# EAGLE library part XL6008 (library Power > Switching Controllers)
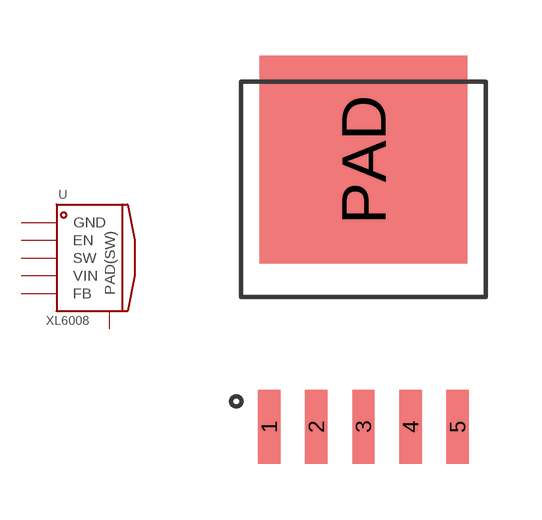
[diagram p6: symbol with the pads of TO252-5L; footprint TO252-5L]

Designator prefix U

## XL6008  [TO252-5L]
1  GND
2  EN
3  SW
4  VIN
5  FB
PAD  PAD(SW)

## Footprint TO252-5L (pad centres in mm)
smd 0.6 x 2: 1 -2.54,-3.6; 2 -1.27,-3.6; 3 0,-3.6; 4 1.27,-3.6; 5 2.54,-3.6
smd 5.6 x 5.6: PAD 0,3.6